# Altium footprint library dolphi_emblab.PcbLib: 125 footprints (part 3 of 8)
Each footprint in its own frame and in the unit in brackets; x right, y up, seen from the top. Pads: shape width x height; smd on the part's side, far side on the other; paste and mask are expansions set on the pad; w line width, h text height; cw(c..) or ccw(c..) is an arc to the next point about the centre after c.
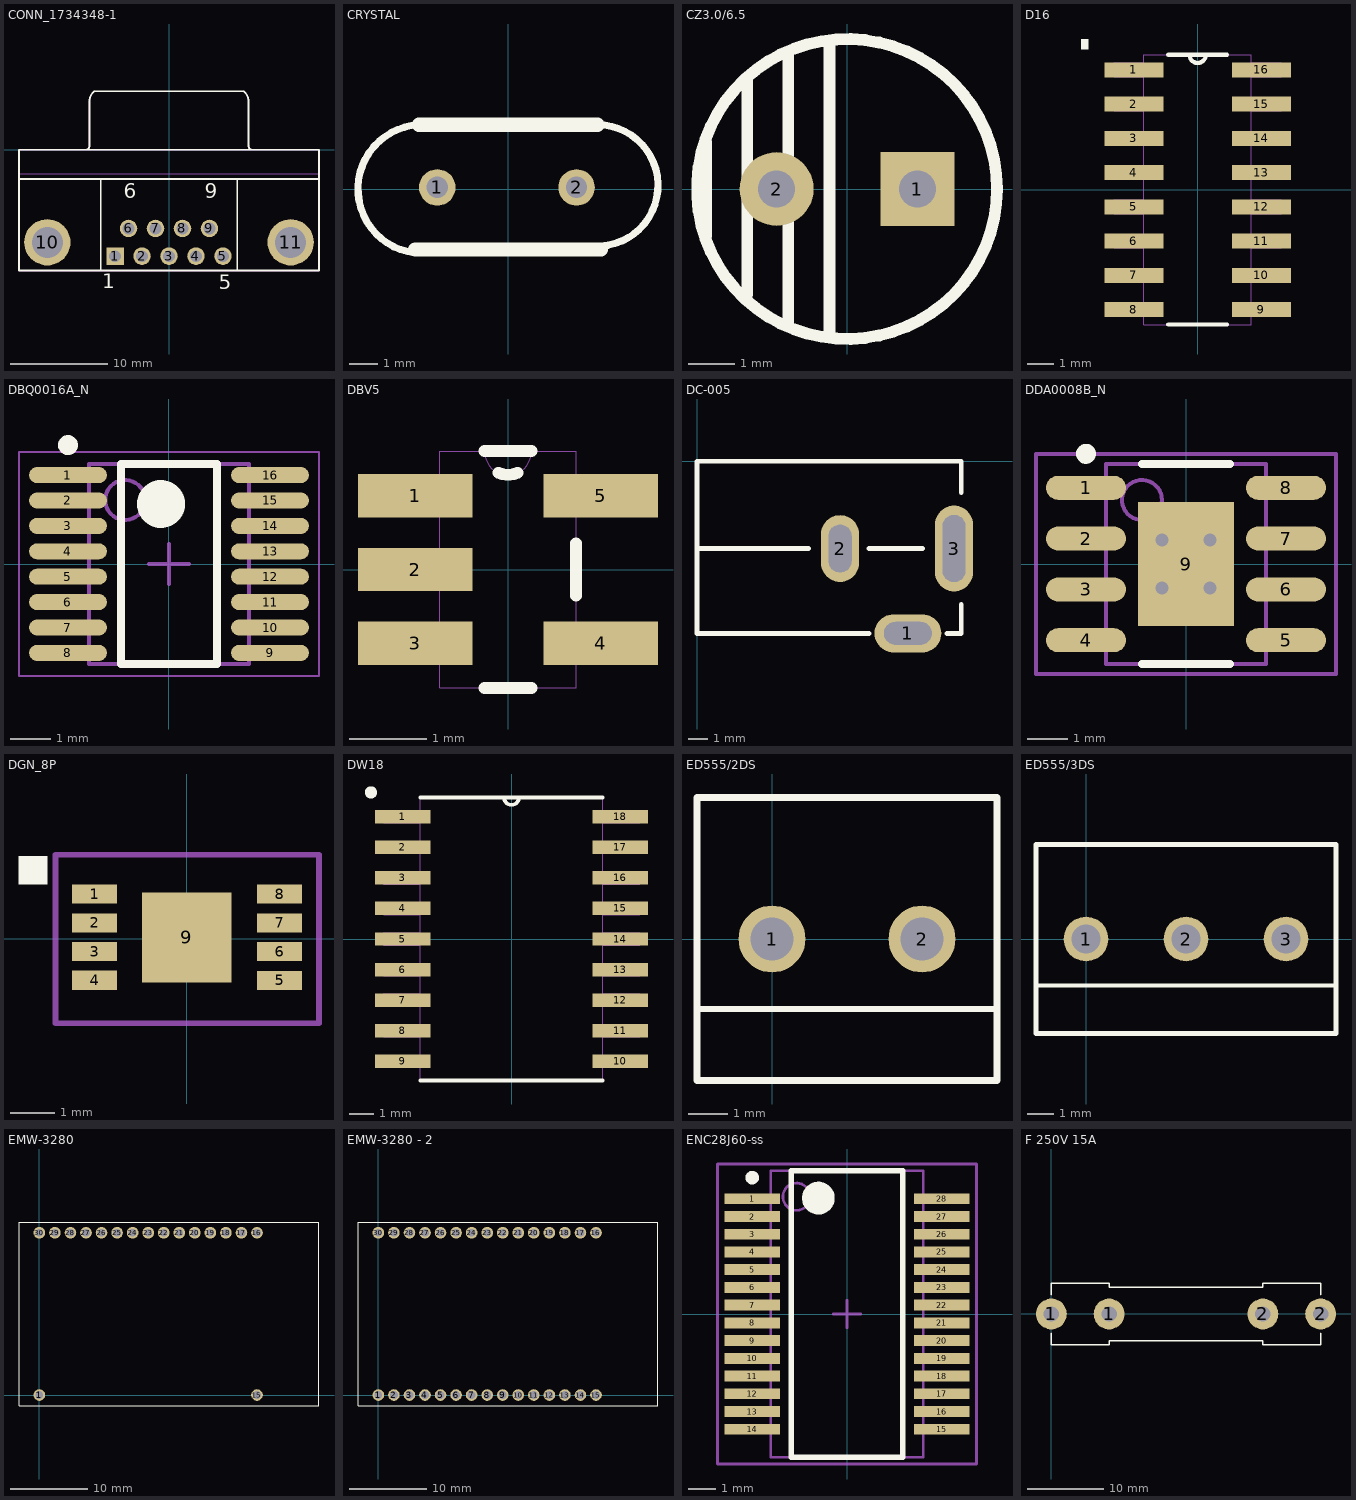
[diagram p2: the footprints below, top view; thin cyan lines are the x and y axes]

## CONN_1734348-1 [mm] "Connector; D Subminiature 9 Position; Right Angle"
height 12.75
pads (11):
  rect 1.8x1.8 hole 1.2: 1(-5.54,-10.92)
  round 1.8 hole 1.2: 2(-2.77,-10.92) 3(0,-10.92) 4(2.77,-10.92) 5(5.54,-10.92) 6(-4.155,-8.08) 7(-1.385,-8.08) 8(1.385,-8.08) 9(4.155,-8.08)
  round 4.76 hole 3.18: 10(-12.495,-9.5) 11(12.495,-9.5)
Top Overlay:
  lines w0.178: -15.4,-3 15.4,-3 ; -8.565,0 ccw(c-8.565,0.4) -8.165,0.4 -8.165,5 cw(c-6.895,5) -7.678,6 -5.525,6 5.525,6 7.678,6 cw(c6.895,5) 8.165,5 8.165,0.4 ccw(c8.565,0.4) 8.565,0 ; -7,-12.4 -7,-3 ; 7,-12.4 7,-3 ; -15.4,-12.4 15.4,-12.4 15.4,0 -15.4,0 -15.4,-12.4
  text "6" at -4.655,-4.975 h1.5
  text "9" at 3.655,-4.975 h1.5
  text "5" at 5.131,-14.326 h1.5
  text "1" at -6.858,-14.224 h1.5
Mechanical 5:
  lines w0.127: -8.565,0 ccw(c-8.565,0.4) -8.165,0.4 -8.165,5 cw(c-6.895,5) -7.678,6 -5.525,6 5.525,6 7.678,6 cw(c6.895,5) 8.165,5 8.165,0.4 ccw(c8.565,0.4) 8.565,0 ; -7.006,6 -7.006,6.02 -6.881,6.02 ; -6.881,6 -6.881,6.02 ; -6.756,6 -6.756,6.02 -6.881,6.02 ; -6.02,6 -6.02,6.02 -5.987,6.02 ; -5.987,6 -5.987,6.02 ; -5.97,6 -5.97,6.02 ; -5.92,6 -5.92,6.02 ; -5.837,6 -5.837,6.02 ; -5.754,6 -5.754,6.02 ; -5.687,6 -5.687,6.02 ; -5.604,6 -5.604,6.02 ; -5.52,6 -5.52,6.02 ; -5.47,6 -5.47,6.02 ; -5.437,6 -5.437,6.02 ; -5.42,6 -5.42,6.02 -5.437,6.02 ; -15.4,-2.45 -13.6,-2.45 13.6,-2.45 15.4,-2.45 ; -15.4,-2.45 -15.4,-0.43 -15.4,0 -13.9,0 13.9,0 15.4,0 15.4,-0.43 15.4,-2.45 ; -15.4,-2.45 -15.4,-4.25 -15.4,-12.4 -14.345,-12.4 -10.645,-12.4 -8.75,-12.4 -7.25,-12.4 7.25,-12.4 8.75,-12.4 10.645,-12.4 14.345,-12.4 15.4,-12.4 15.4,-4.25 15.4,-2.45 ; -5.987,6.02 -5.97,6.02 ; -5.97,6.02 -5.92,6.02 ; -5.92,6.02 -5.837,6.02 ; -5.837,6.02 -5.754,6.02 ; -5.754,6.02 -5.687,6.02 ; -5.687,6.02 -5.604,6.02 ; -5.604,6.02 -5.52,6.02 ; -5.52,6.02 -5.47,6.02 ; -5.47,6.02 -5.437,6.02
  text ".Designator" at -4.572,-9.652 h1.02
3D body: height 12.52, standoff -4.08, extent -15.4,-12.4 15.4,6.02

## CRYSTAL [mm]
pads (2):
  round 1.3 hole 0.762: 1(-2.517,0.055) 2(2.436,0.055)
Top Overlay:
  lines w0.254: -3.316,-2.274 cw(c-3.048,0) -3.175,2.286 ; 3.175,2.286 cw(c3.175,0.127) 3.295,-2.029
  lines w0.5: -3.302,-2.159 3.302,-2.159 ; -3.175,2.286 3.175,2.286

## CZ3.0/6.5 [mm]
height 12.7
pads (2):
  rect 1.6x1.6 hole 0.8: 1(1.524,0)
  round 1.6 hole 0.8: 2(-1.524,0)
Top Overlay:
  circle w0.254: c0,0 r3.25
  lines w0.254: -3.048,-1.016 -3.048,1.016 ; -2.159,-2.286 -2.159,2.413 ; -1.27,-2.921 -1.27,2.921 ; -0.381,-3.175 -0.381,3.175

## D16 [mil]
pads (16):
  rect 86x22 smd: 1(-93,175) 2(-93,125) 3(-93,75) 4(-93,25) 5(-93,-25) 6(-93,-75) 7(-93,-125) 8(-93,-175) 9(93,-175) 10(93,-125) 11(93,-75) 12(93,-25) 13(93,25) 14(93,75) 15(93,125) 16(93,175)
Top Overlay:
  region: -170,220 -160,220 -160,205 -170,205
  lines w6: -42.89,-197 42.89,-197 ; -42.89,197 42.89,197 ; -12,197 ccw(c0,197) 12,197
Mechanical 1:
  lines w0: -12,197 ccw(c0,197) 12,197 ; -122,-185 -78.5,-185 -78.5,-165 -122,-165 -122,-185 ; -122,-135 -78.5,-135 -78.5,-115 -122,-115 -122,-135 ; -122,-85 -78.5,-85 -78.5,-65 -122,-65 -122,-85 ; -122,-35 -78.5,-35 -78.5,-15 -122,-15 -122,-35 ; -122,15 -78.5,15 -78.5,35 -122,35 -122,15 ; -122,65 -78.5,65 -78.5,85 -122,85 -122,65 ; -122,115 -78.5,115 -78.5,135 -122,135 -122,115 ; -122,165 -78.5,165 -78.5,185 -122,185 -122,165 ; -78.5,-197 -78.5,197 78.5,197 78.5,-197 -78.5,-197 ; 78.5,-185 122,-185 122,-165 78.5,-165 78.5,-185 ; 78.5,-135 122,-135 122,-115 78.5,-115 78.5,-135 ; 78.5,-85 122,-85 122,-65 78.5,-65 78.5,-85 ; 78.5,-35 122,-35 122,-15 78.5,-15 78.5,-35 ; 78.5,15 122,15 122,35 78.5,35 78.5,15 ; 78.5,65 122,65 122,85 78.5,85 78.5,65 ; 78.5,115 122,115 122,135 78.5,135 78.5,115 ; 78.5,165 122,165 122,185 78.5,185 78.5,165

## DBQ0016A_N [mm] "SOP, 16-Leads, Body 4.9x3.9mm, Pitch 0.635mm, IPC Medium Density"
height 1.76
pads (16):
  oval 1.95x0.4 smd: 1(-2.525,2.222) 2(-2.525,1.587) 3(-2.525,0.953) 4(-2.525,0.318) 5(-2.525,-0.318) 6(-2.525,-0.953) 7(-2.525,-1.587) 8(-2.525,-2.222) 9(2.525,-2.222) 10(2.525,-1.587) 11(2.525,-0.953) 12(2.525,-0.318) 13(2.525,0.318) 14(2.525,0.953) 15(2.525,1.587) 16(2.525,2.222)
Top Overlay:
  circle w0.25: c-2.525,2.973 r0.125
  circle w0.6: c-0.2,1.5 r0.3
  lines w0.2: -1.2,-2.5 -1.2,2.5 1.2,2.5 1.2,-2.5 -1.2,-2.5
Mechanical 5:
  circle w0.1: c-1.095,1.6 r0.5
  lines w0.1: -1.995,-2.5 -1.995,2.5 1.995,2.5 1.995,-2.5 -1.995,-2.5
  text ".Designator" at -1.168,-0.787 h0.89
Mechanical 15:
  lines w0.05: -3.75,-2.8 -3.75,2.8 3.75,2.8 3.75,-2.8 -3.75,-2.8
  lines w0.1: -0.5,0 0.5,0 ; 0,-0.5 0,0.5
3D body: height 1.76, standoff 0.1, extent -1.995,-2.5 1.995,2.5

## DBV5 [mil]
pads (5):
  rect 58x22 smd: 1(-47,37.4) 2(-47,0) 3(-47,-37.4) 4(47,-37.4) 5(47,37.4)
Top Overlay:
  lines w6: -11.91,-60 11.91,-60 ; -11.91,60 11.91,60 ; -4.92,49.05 ccw(c0,60) 4.92,49.05 ; 34.5,-13.3 34.5,13.3
Mechanical 1:
  lines w0: -12,60 ccw(c0,60) 12,60 ; -59,-47.4 -59,-27.4 -34.5,-27.4 -34.5,-47.4 -59,-47.4 ; -59,-10 -59,10 -34.5,10 -34.5,-10 -59,-10 ; -59,27.4 -59,47.4 -34.5,47.4 -34.5,27.4 -59,27.4 ; -34.5,-60 34.5,-60 34.5,60 -34.5,60 -34.5,-60 ; 34.5,-47.4 34.5,-27.4 59,-27.4 59,-47.4 34.5,-47.4 ; 34.5,27.4 34.5,47.4 59,47.4 59,27.4 34.5,27.4

## DC-005 [mm]
height 1
pads (3):
  oval 3.5x2 hole 1.2 slot 2.5 at 0 deg: 1(11.049,-9.017)
  oval 2x3.5 hole 1.2 slot 2.5 at 90 deg: 2(7.493,-4.572)
  oval 2x4.5 hole 1.2 slot 3.5 at 90 deg: 3(13.462,-4.572)
Top Overlay:
  lines w0.254: 0,-4.572 5.842,-4.572 ; 9.017,-9.017 8.382,-9.017 0,-9.017 0,0 12.7,0 13.843,0 13.843,-1.651 ; 9.017,-4.572 11.811,-4.572 ; 13.081,-9.017 13.843,-9.017 13.843,-7.493

## DDA0008B_N [mm] "SOIC, 8-Leads, Body 4.9x3.9mm, Pitch 1.27mm, Exposed Pad, IPC Medium Density"
height 1.68
pads (9):
  oval 2x0.6 smd: 1(-2.5,1.905) 2(-2.5,0.635) 3(-2.5,-0.635) 4(-2.5,-1.905) 5(2.5,-1.905) 6(2.5,-0.635) 7(2.5,0.635) 8(2.5,1.905)
  rect 2.41x3.1 smd: 9(0,0)
via -0.6,0.6 diameter 0.66 hole 0.33
via 0.6,0.6 diameter 0.66 hole 0.33
via 0.6,-0.6 diameter 0.66 hole 0.33
via -0.6,-0.6 diameter 0.66 hole 0.33
Top Overlay:
  circle w0.25: c-2.5,2.755 r0.125
  lines w0.2: -1.1,-2.5 1.1,-2.5 ; -1.1,2.5 1.1,2.5
Mechanical 5:
  circle w0.1: c-1.1,1.6 r0.5
  lines w0.1: -2,-2.5 -2,2.5 2,2.5 2,-2.5 -2,-2.5
  text ".Designator" at -0.762,-0.483 h0.89
Mechanical 15:
  lines w0.1: -0.5,0 0.5,0 ; 0,-0.5 0,0.5 ; -3.75,-2.75 -3.75,2.75 3.75,2.75 3.75,-2.75 -3.75,-2.75
3D body: height 1.68, standoff 0.03, extent -2,-2.5 2,2.5

## DGN_8P [mil]
pads (9):
  rect 40x17 smd: 1(-82.1,40) 2(-82.1,14.4) 3(-82.1,-11.2) 4(-82.1,-36.8) 5(82.9,-36.9) 6(82.9,-11.3) 7(82.9,14.3) 8(82.9,40)
  rect 80x80 smd: 9(0.2,1.4)
Top Overlay:
  region: -149.5,74 -124.5,74 -124.5,49 -149.5,49
Mechanical 5:
  lines w5: -117,-75 118,-75 118,75 -117,75 -117,-75

## DW18 [mil]
pads (18):
  rect 91x22 smd: 1(-178,200) 2(-178,150) 3(-178,100) 4(-178,50) 5(-178,0) 6(-178,-50) 7(-178,-100) 8(-178,-150) 9(-178,-200) 10(178,-200) 11(178,-150) 12(178,-100) 13(178,-50) 14(178,0) 15(178,50) 16(178,100) 17(178,150) 18(178,200)
Top Overlay:
  circle w10: c-230,240 r5
  lines w6: -149.5,-231.5 149.5,-231.5 ; -149.5,231.5 149.5,231.5 ; -12,231.5 ccw(c0,231.5) 12,231.5
Mechanical 1:
  lines w0: -12,231.5 ccw(c0,231.5) 12,231.5 ; -209.5,-210 -209.5,-190 -149.5,-190 -149.5,-210 -209.5,-210 ; -209.5,-160 -209.5,-140 -149.5,-140 -149.5,-160 -209.5,-160 ; -209.5,-110 -209.5,-90 -149.5,-90 -149.5,-110 -209.5,-110 ; -209.5,-60 -209.5,-40 -149.5,-40 -149.5,-60 -209.5,-60 ; -209.5,-10 -209.5,10 -149.5,10 -149.5,-10 -209.5,-10 ; -209.5,40 -209.5,60 -149.5,60 -149.5,40 -209.5,40 ; -209.5,90 -209.5,110 -149.5,110 -149.5,90 -209.5,90 ; -209.5,140 -209.5,160 -149.5,160 -149.5,140 -209.5,140 ; -209.5,190 -209.5,210 -149.5,210 -149.5,190 -209.5,190 ; -149.5,-231.5 149.5,-231.5 149.5,231.5 -149.5,231.5 -149.5,-231.5 ; 149.5,-210 149.5,-190 209.5,-190 209.5,-210 149.5,-210 ; 149.5,-160 149.5,-140 209.5,-140 209.5,-160 149.5,-160 ; 149.5,-110 149.5,-90 209.5,-90 209.5,-110 149.5,-110 ; 149.5,-60 149.5,-40 209.5,-40 209.5,-60 149.5,-60 ; 149.5,-10 149.5,10 209.5,10 209.5,-10 149.5,-10 ; 149.5,40 149.5,60 209.5,60 209.5,40 149.5,40 ; 149.5,90 149.5,110 209.5,110 209.5,90 149.5,90 ; 149.5,140 149.5,160 209.5,160 209.5,140 149.5,140 ; 149.5,190 149.5,210 209.5,210 209.5,190 149.5,190

## ED555/2DS [mm] "TERMINAL BLOCK 3.5MM 2POS PCB"
pads (2):
  round 1.7 hole 1.1: 1(0,0) 2(3.81,0)
Top Overlay:
  lines w0.152: -1.905,-1.778 5.715,-1.778
  lines w0.178: -1.905,-3.6 -1.905,0 -1.905,3.6 1.905,3.6 5.715,3.6 5.715,0 5.715,-3.6 1.905,-3.6 -1.905,-3.6
Mechanical 5:
  text ".Designator" at -2.794,4.572 h1.02
3D body: height 8.52, standoff -3.48, extent -1.905,-3.599 5.715,3.701

## ED555/3DS [mm] "TERMINAL BLOCK 3.5MM 3POS PCB"
pads (3):
  round 1.7 hole 1.1: 1(0,0) 2(3.81,0) 3(7.62,0)
Top Overlay:
  lines w0.152: -1.905,-1.778 9.525,-1.778
  lines w0.178: -1.905,-3.6 -1.905,0 -1.905,3.6 1.905,3.6 5.715,3.6 9.525,3.6 9.525,0 9.525,-3.6 5.715,-3.6 1.905,-3.6 -1.905,-3.6
Mechanical 5:
  text ".Designator" at -2.286,4.572 h1.02
3D body: height 6.35, standoff 0, extent -1.905,-3.7 9.525,3.6

## EMW-3280 [mm]
pads (17):
  round 1.5 hole 1: 1(0,0) 15(28,0) 16(28,20.88) 17(26,20.88) 18(24,20.88) 19(22,20.88) 20(20,20.88) 21(18,20.88) 22(16,20.88) 23(14,20.88) 24(12,20.88) 25(10,20.88) 26(8,20.88) 27(6,20.88) 28(4,20.88) 29(2,20.88) 30(0,20.88)
Top Overlay:
  lines w0.127: -2.62,-1.37 -2.62,22.25 35.98,22.25 35.98,-1.397 -2.62,-1.37

## EMW-3280 - 2 [mm]
pads (30):
  round 1.5 hole 1: 1(0,0) 2(2,0) 3(4,0) 4(6,0) 5(8,0) 6(10,0) 7(12,0) 8(14,0) 9(16,0) 10(18,0) 11(20,0) 12(22,0) 13(24,0) 14(26,0) 15(28,0) 16(28,20.88) 17(26,20.88) 18(24,20.88) 19(22,20.88) 20(20,20.88) 21(18,20.88) 22(16,20.88) 23(14,20.88) 24(12,20.88) 25(10,20.88) 26(8,20.88) 27(6,20.88) 28(4,20.88) 29(2,20.88) 30(0,20.88)
Top Overlay:
  lines w0.127: -2.62,-1.37 -2.62,22.25 35.98,22.25 35.98,-1.397 -2.62,-1.37

## ENC28J60-ss [mm] "SOP, 28-Leads, Body 10.5x5.6mm (max), Pitch 0.65mm, IPC Medium Density"
height 2
pads (28):
  rect 2.05x0.4 smd: 1(-3.475,4.225) 2(-3.475,3.575) 3(-3.475,2.925) 4(-3.475,2.275) 5(-3.475,1.625) 6(-3.475,0.975) 7(-3.475,0.325) 8(-3.475,-0.325) 9(-3.475,-0.975) 10(-3.475,-1.625) 11(-3.475,-2.275) 12(-3.475,-2.925) 13(-3.475,-3.575) 14(-3.475,-4.225) 15(3.475,-4.225) 16(3.475,-3.575) 17(3.475,-2.925) 18(3.475,-2.275) 19(3.475,-1.625) 20(3.475,-0.975) 21(3.475,-0.325) 22(3.475,0.325) 23(3.475,0.975) 24(3.475,1.625) 25(3.475,2.275) 26(3.475,2.925) 27(3.475,3.575) 28(3.475,4.225)
Top Overlay:
  circle w0.25: c-3.475,5 r0.125
  circle w0.6: c-1.05,4.25 r0.3
  lines w0.2: -2.05,-5.25 -2.05,5.25 2.05,5.25 2.05,-5.25 -2.05,-5.25
Mechanical 13:
  circle w0.1: c-1.85,4.3 r0.5
  lines w0.1: -2.8,-5.25 -2.8,5.25 2.8,5.25 2.8,-5.25 -2.8,-5.25
Mechanical 15:
  lines w0.1: -0.5,0 0.5,0 ; 0,-0.5 0,0.5 ; -4.75,-5.5 -4.75,5.5 4.75,5.5 4.75,-5.5 -4.75,-5.5
3D body: height 2, standoff 0.09, extent -2.8,-5.25 2.8,5.25

## F 250V 15A [mm]
pads (4):
  round 4 hole 2: 1(0,0) 1(7.5,0) 2(27.5,0) 2(35,0)
Top Overlay:
  lines w0.2: 0,-2.5 0,-4.001 7.5,-4.001 7.5,-3.5 27.5,-3.5 27.5,-4 35,-4 35,-2.5 ; 0,2.5 0,4 7.5,4 7.5,3.5 27.5,3.5 27.5,4 35,4 35,2.5